# Altium footprint library транзисторы.PcbLib: 2 footprints
Each footprint in its own frame and in the unit in brackets; x right, y up, seen from the top. Pads: shape width x height; smd on the part's side, far side on the other; paste and mask are expansions set on the pad; w line width, h text height; cw(c..) or ccw(c..) is an arc to the next point about the centre after c.
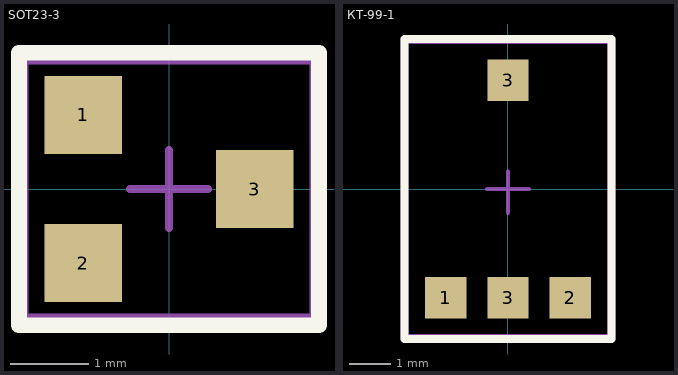
[diagram p0: the footprints below, top view; thin cyan lines are the x and y axes]

## SOT23-3 [mm]
pads (3):
  rect 1x1 smd: 1(-1.1,0.95) 2(-1.1,-0.95) 3(1.1,0)
Top Overlay:
  lines w0.2: -1.925,-1.75 1.925,-1.75 1.925,1.75 -1.925,1.75 -1.925,-1.75
Top Assy:
  lines w0.2: -1.9,-1.7 -1.9,1.7 1.9,1.7 1.9,-1.7 -1.9,-1.7
  text ".Designator" at -1.5,-0.4 h1.52
Mechanical 15:
  lines w0.1: -0.5,0 0.5,0 ; 0,-0.5 0,0.5
3D body "SOT23-3.STEP": height 1.05, standoff -0.05, extent -1.25,-1.5 1.25,1.5

## КТ-99-1 [mm]
pads (4):
  rect 1x1 smd: 1(-1.5,-2.625) 2(1.5,-2.625) 3(0,-2.625) 3(0,2.625)
Top Overlay:
  lines w0.2: -2.5,-3.625 -2.5,3.625 -1.75,3.625 -1,3.625 0,3.625 1.25,3.625 2.5,3.625 2.5,-3.625 -2.5,-3.625
Top Assy:
  lines w0.2: -2.5,-3.6 2.5,-3.6 2.5,3.6 -2.5,3.6 -2.5,-3.6
  text ".Designator" at -2.1,-2.4 h1.52
Mechanical 15:
  lines w0.1: -0.5,0 0.5,0 ; 0,-0.573 0,0.427
3D body "KT-99-1.STEP": height 1.94, standoff 0.01, extent -2.3,-2.55 2.3,2.7